# EAGLE library part TC7662BEOA (library SamacSys_Parts)
DC-TO-DC VOLTAGE CONVERTER Source: Datasheet <http://componentsearchengine.com/Datasheets/3/TC7662BEOA.pdf>
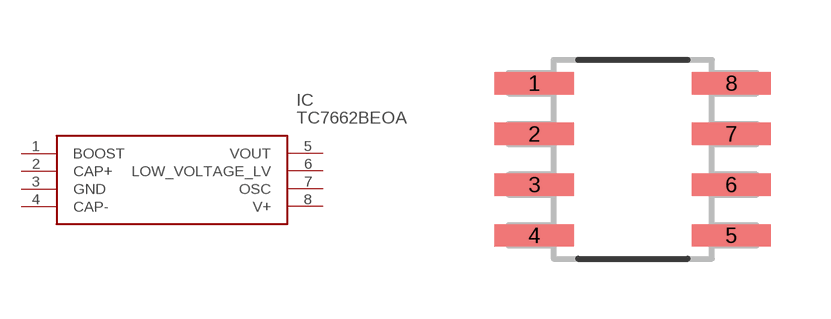
[diagram p5: symbol with the pads of SOIC127P600X175-8N; footprint SOIC127P600X175-8N]

Designator prefix IC

## TC7662BEOA (ALLIED_NUMBER: 70045795; ALLIED_PRICE-STOCK: https://www.alliedelec.com/microchip-technology-inc-tc7662beoa/70045795/; DESCRIPTION: DC-TO-DC VOLTAGE CONVERTER; HEIGHT: mm; MANUFACTURER_NAME: Microchip; MANUFACTURER_PART_NUMBER: TC7662BEOA; MOUSER_PART_NUMBER: 579-TC7662BEOA; MOUSER_PRICE-STOCK: https://www.mouser.com/Search/Refine.aspx?Keyword=579-TC7662BEOA; RS_PART_NUMBER: 7386269P; RS_PRICE-STOCK: http://uk.rs-online.com/web/p/products/7386269P)  [SOIC127P600X175-8N]
1  BOOST
2  CAP+
3  GND
4  CAP-
5  VOUT
6  LOW_VOLTAGE_LV
7  OSC
8  V+

## Footprint SOIC127P600X175-8N (pad centres in mm)
SOIC127P600X175-8N
smd 1.981 x 0.559: 1 -2.464,1.905; 2 -2.464,0.635; 3 -2.464,-0.635; 4 -2.464,-1.905; 5 2.464,-1.905; 6 2.464,-0.635; 7 2.464,0.635; 8 2.464,1.905